# EAGLE library part POLOLUDRV8833 (library AlarisHandLib)
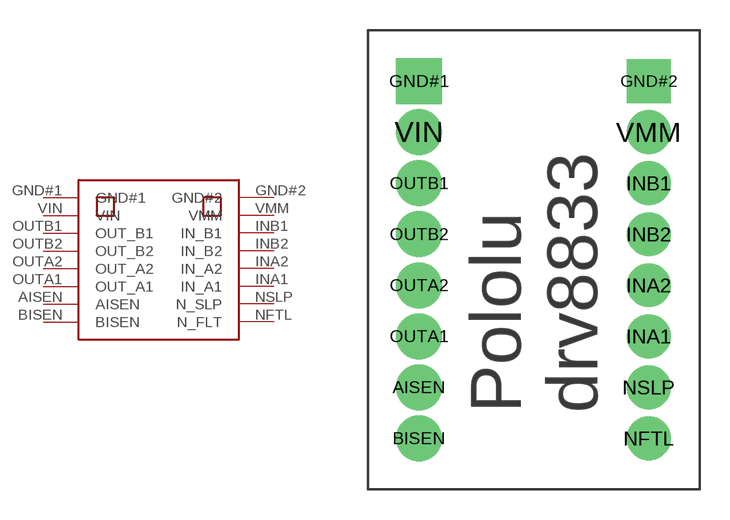
[diagram p0: symbol with the pads of POLOLUDRV8833; footprint POLOLUDRV8833]

Designator prefix -

## POLOLUDRV8833  [POLOLUDRV8833]
AISEN  AISEN
BISEN  BISEN
GND#1  GND#1
GND#2  GND#2
INA1  IN_A1
INA2  IN_A2
INB1  IN_B1
INB2  IN_B2
NFTL  N_FLT
NSLP  N_SLP
OUTA1  OUT_A1
OUTA2  OUT_A2
OUTB1  OUT_B1
OUTB2  OUT_B2
VIN  VIN
VMM  VMM

## Footprint POLOLUDRV8833 (pad centres in mm)
drill 1.016 pad 2.286: AISEN -8.89,-2.54; BISEN -8.89,-5.08; OUTA1 -8.89,0; OUTA2 -8.89,2.54; OUTB1 -8.89,7.62; OUTB2 -8.89,5.08; VIN -8.89,10.16
drill 1.016 pad 2.286 square: GND#1 -8.89,12.7
drill 1.016 pad 2.184 square: GND#2 2.54,12.7
drill 1.016 pad 2.184: INA1 2.54,0; INA2 2.54,2.54; INB1 2.54,7.62; INB2 2.54,5.08; NFTL 2.54,-5.08; NSLP 2.54,-2.54; VMM 2.54,10.16